# EAGLE library part KONASHI_MINI (library konashiv2)
konashi 小型化拡張ボード (YE-EX002)は、 フィジカル・コンピューティング・ツールキットkonashi (YE-WPC001)を小型化するための基板です。 本製品を使うことで、konashiを使ったウェアラブル機器や組み込み機器のプロトタイプをより小型に製作することができます。
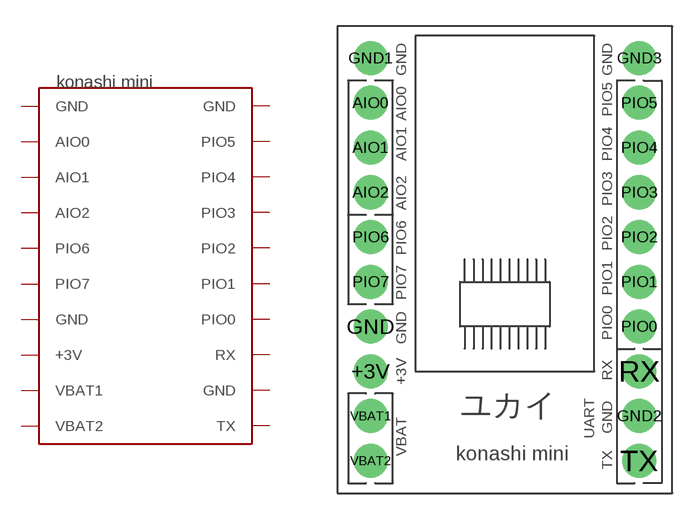
[diagram p2: symbol with the pads of KONASHI_MINI; footprint KONASHI_MINI]

Designator prefix -

## KONASHI_MINI  [KONASHI_MINI]
+3V  +3V  pwr
AIO0  AIO0
AIO1  AIO1
AIO2  AIO2
GND  GND  pwr
GND1  GND  pwr
GND2  GND  pwr
GND3  GND  pwr
PIO0  PIO0
PIO1  PIO1
PIO2  PIO2
PIO3  PIO3
PIO4  PIO4
PIO5  PIO5
PIO6  PIO6
PIO7  PIO7
RX  RX
TX  TX
VBAT1  VBAT1  pwr
VBAT2  VBAT2  pwr

## Footprint KONASHI_MINI (pad centres in mm)
konashi 小型化拡張ボード (YE-EX002)は、 フィジカル・コンピューティング・ツールキットkonashi (YE-WPC001)を小型化するための基板です。 本製品を使うことで、konashiを使ったウェアラブル機器や組み込み機器のプロトタイプをより小型に製作することができます。
drill 1.2 pad 1.93: +3V -7.62,-7.62; AIO0 -7.62,7.62; AIO1 -7.62,5.08; AIO2 -7.62,2.54; GND -7.62,-5.08; GND1 -7.62,10.16; GND2 7.62,-10.16; GND3 7.62,10.16; PIO0 7.62,-5.08; PIO1 7.62,-2.54; PIO2 7.62,0; PIO3 7.62,2.54; PIO4 7.62,5.08; PIO5 7.62,7.62; PIO6 -7.62,0; PIO7 -7.62,-2.54; RX 7.62,-7.62; TX 7.62,-12.7; VBAT1 -7.62,-10.16; VBAT2 -7.62,-12.7